# Altium schematic symbol library Memory_EEPROM.SchLib: 84 symbols
Pins are listed as number, name and electrical type; pins without a type are passive.

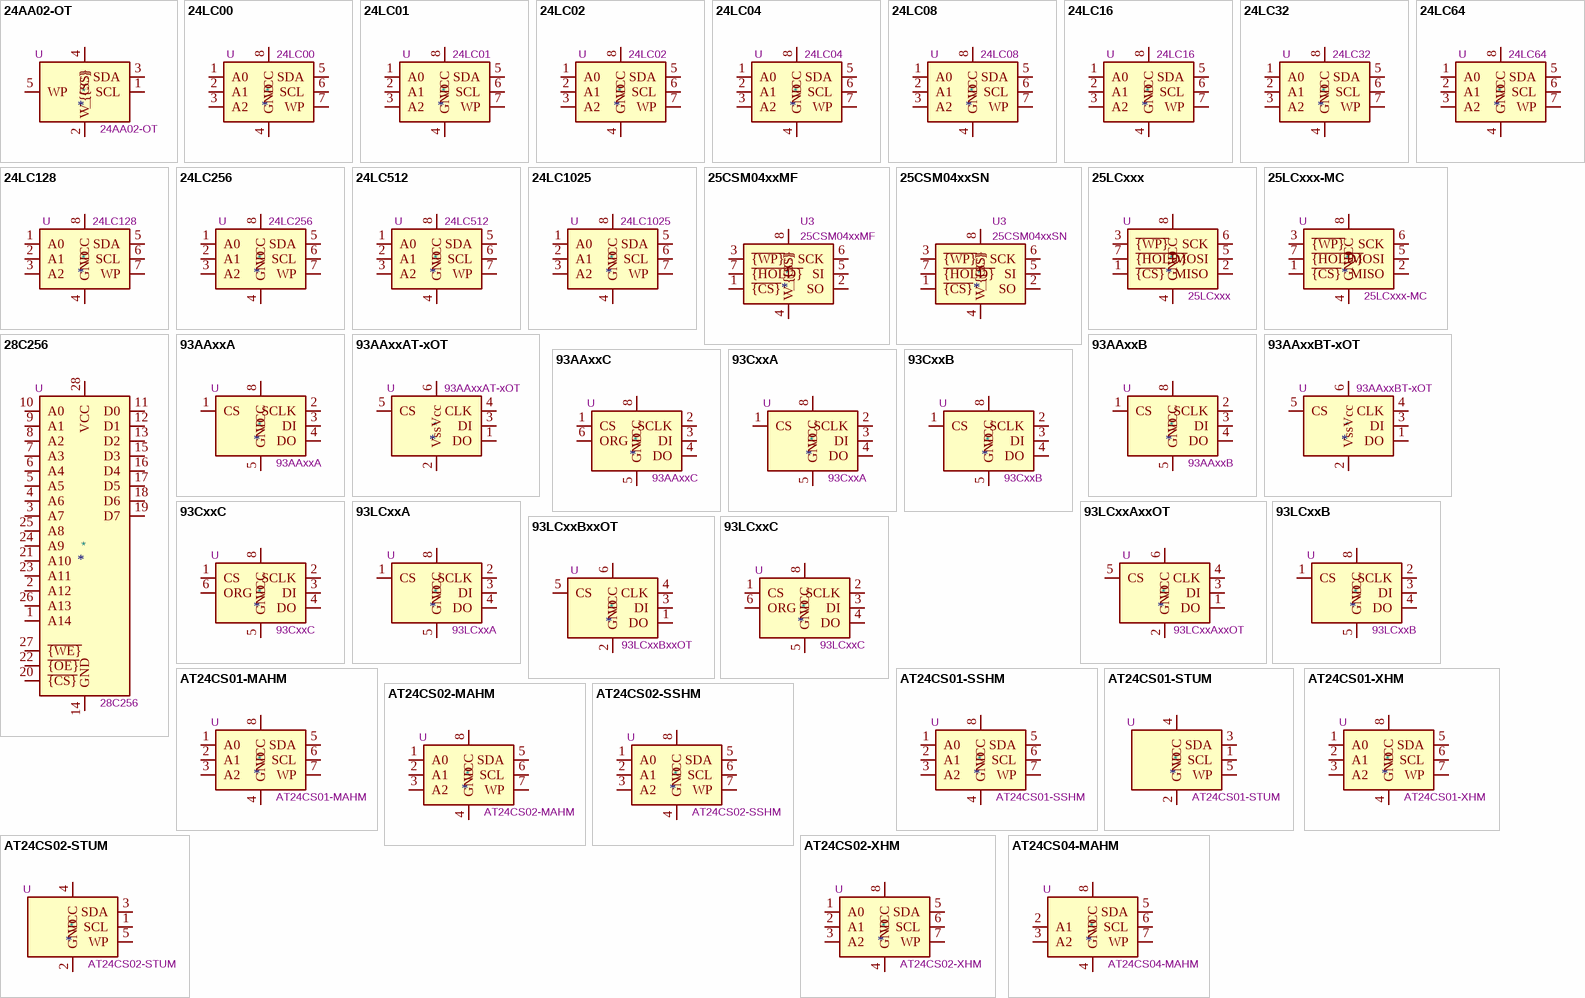
[diagram p0: symbols 24AA02-OT to AT24CS04-MAHM]

## 24AA02-OT
designator *  value 24AA02-OT  Reference: U
ki_keywords: I2C Serial EEPROM; ki_description: I2C Serial EEPROM, 2Kb, SOT-23; ki_fp_filters: SOT?23*; Footprint: Package_TO_SOT_SMD:SOT-23-5; Datasheet: http://ww1.microchip.com/downloads/en/DeviceDoc/21709J.pdf
pins: 1 SCL, 2 V_{SS}, 3 SDA, 4 V_{CC}, 5 WP

## 24LC00
designator *  value 24LC00  Reference: U
ki_keywords: I2C Serial EEPROM; ki_description: I2C Serial EEPROM, 128 Bits, DIP-8/SOIC-8/TSSOP-8/DFN-8; ki_fp_filters: DIP*W7.62mm* SOIC*3.9x4.9mm* TSSOP*4.4x3mm*P0.65mm* DFN*3x2mm*P0.5mm*; Datasheet: http://ww1.microchip.com/downloads/en/DeviceDoc/21178G.pdf
pins: 1 A0, 2 A1, 3 A2, 4 GND, 5 SDA, 6 SCL, 7 WP, 8 VCC

## 24LC01
designator *  value 24LC01  Reference: U
ki_keywords: I2C Serial EEPROM; ki_description: I2C Serial EEPROM, 1Kb, DIP-8/SOIC-8/TSSOP-8/DFN-8; ki_fp_filters: DIP*W7.62mm* SOIC*3.9x4.9mm* TSSOP*4.4x3mm*P0.65mm* DFN*3x2mm*P0.5mm*; Datasheet: http://ww1.microchip.com/downloads/en/DeviceDoc/21711J.pdf
pins: 1 A0, 2 A1, 3 A2, 4 GND, 5 SDA, 6 SCL, 7 WP, 8 VCC

## 24LC02
designator *  value 24LC02  Reference: U
ki_keywords: I2C Serial EEPROM; ki_description: I2C Serial EEPROM, 2Kb, DIP-8/SOIC-8/TSSOP-8/DFN-8; ki_fp_filters: DIP*W7.62mm* SOIC*3.9x4.9mm* TSSOP*4.4x3mm*P0.65mm* DFN*3x2mm*P0.5mm*; Datasheet: http://ww1.microchip.com/downloads/en/DeviceDoc/21709c.pdf
pins: 1 A0, 2 A1, 3 A2, 4 GND, 5 SDA, 6 SCL, 7 WP, 8 VCC

## 24LC04
designator *  value 24LC04  Reference: U
ki_keywords: I2C Serial EEPROM; ki_description: I2C Serial EEPROM, 4Kb, DIP-8/SOIC-8/TSSOP-8/DFN-8; ki_fp_filters: DIP*W7.62mm* SOIC*3.9x4.9mm* TSSOP*4.4x3mm*P0.65mm* DFN*3x2mm*P0.5mm*; Datasheet: http://ww1.microchip.com/downloads/en/DeviceDoc/21708K.pdf
pins: 1 A0, 2 A1, 3 A2, 4 GND, 5 SDA, 6 SCL, 7 WP, 8 VCC

## 24LC08
designator *  value 24LC08  Reference: U
ki_keywords: I2C Serial EEPROM; ki_description: I2C Serial EEPROM, 8Kb, DIP-8/SOIC-8/TSSOP-8/DFN-8; ki_fp_filters: DIP*W7.62mm* SOIC*3.9x4.9mm* TSSOP*4.4x3mm*P0.65mm* DFN*3x2mm*P0.5mm*; Datasheet: http://ww1.microchip.com/downloads/en/DeviceDoc/21710J.pdf
pins: 1 A0, 2 A1, 3 A2, 4 GND, 5 SDA, 6 SCL, 7 WP, 8 VCC

## 24LC16
designator *  value 24LC16  Reference: U
ki_keywords: I2C Serial EEPROM; ki_description: I2C Serial EEPROM, 16Kb, DIP-8/SOIC-8/TSSOP-8/DFN-8; ki_fp_filters: DIP*W7.62mm* SOIC*3.9x4.9mm* TSSOP*4.4x3mm*P0.65mm* DFN*3x2mm*P0.5mm*; Datasheet: http://ww1.microchip.com/downloads/en/DeviceDoc/21703d.pdf
pins: 1 A0, 2 A1, 3 A2, 4 GND, 5 SDA, 6 SCL, 7 WP, 8 VCC

## 24LC32
designator *  value 24LC32  Reference: U
ki_keywords: I2C Serial EEPROM; ki_description: I2C Serial EEPROM, 32Kb, DIP-8/SOIC-8/TSSOP-8/DFN-8; ki_fp_filters: DIP*W7.62mm* SOIC*3.9x4.9mm* TSSOP*4.4x3mm*P0.65mm* DFN*3x2mm*P0.5mm*; Datasheet: http://ww1.microchip.com/downloads/en/DeviceDoc/21072G.pdf
pins: 1 A0, 2 A1, 3 A2, 4 GND, 5 SDA, 6 SCL, 7 WP, 8 VCC

## 24LC64
designator *  value 24LC64  Reference: U
ki_keywords: I2C Serial EEPROM; ki_description: I2C Serial EEPROM, 64Kb, DIP-8/SOIC-8/TSSOP-8/DFN-8; ki_fp_filters: DIP*W7.62mm* SOIC*3.9x4.9mm* TSSOP*4.4x3mm*P0.65mm* DFN*3x2mm*P0.5mm*; Datasheet: http://ww1.microchip.com/downloads/en/DeviceDoc/21189f.pdf
pins: 1 A0, 2 A1, 3 A2, 4 GND, 5 SDA, 6 SCL, 7 WP, 8 VCC

## 24LC128
designator *  value 24LC128  Reference: U
ki_keywords: I2C Serial EEPROM; ki_description: I2C Serial EEPROM, 128Kb, DIP-8/SOIC-8/TSSOP-8/DFN-8; ki_fp_filters: DIP*W7.62mm* SOIC*3.9x4.9mm* TSSOP*4.4x3mm*P0.65mm* DFN*3x2mm*P0.5mm*; Datasheet: http://ww1.microchip.com/downloads/en/DeviceDoc/21191s.pdf
pins: 1 A0, 2 A1, 3 A2, 4 GND, 5 SDA, 6 SCL, 7 WP, 8 VCC

## 24LC256
designator *  value 24LC256  Reference: U
ki_keywords: I2C Serial EEPROM; ki_description: I2C Serial EEPROM, 256Kb, DIP-8/SOIC-8/TSSOP-8/DFN-8; ki_fp_filters: DIP*W7.62mm* SOIC*3.9x4.9mm* TSSOP*4.4x3mm*P0.65mm* DFN*3x2mm*P0.5mm*; Datasheet: http://ww1.microchip.com/downloads/en/devicedoc/21203m.pdf
pins: 1 A0, 2 A1, 3 A2, 4 GND, 5 SDA, 6 SCL, 7 WP, 8 VCC

## 24LC512
designator *  value 24LC512  Reference: U
ki_keywords: I2C Serial EEPROM; ki_description: I2C Serial EEPROM, 512Kb, DIP-8/SOIC-8/TSSOP-8/DFN-8; ki_fp_filters: DIP*W7.62mm* SOIC*3.9x4.9mm* TSSOP*4.4x3mm*P0.65mm* DFN*3x2mm*P0.5mm*; Datasheet: http://ww1.microchip.com/downloads/en/DeviceDoc/21754M.pdf
pins: 1 A0, 2 A1, 3 A2, 4 GND, 5 SDA, 6 SCL, 7 WP, 8 VCC

## 24LC1025
designator *  value 24LC1025  Reference: U
ki_keywords: I2C Serial EEPROM; ki_description: I2C Serial EEPROM, 1024Kb, DIP-8/SOIC-8/TSSOP-8/DFN-8; ki_fp_filters: DIP*W7.62mm* SOIC*3.9x4.9mm* TSSOP*4.4x3mm*P0.65mm* DFN*3x2mm*P0.5mm*; Datasheet: http://ww1.microchip.com/downloads/en/DeviceDoc/21941B.pdf
pins: 1 A0, 2 A1, 3 A2, 4 GND, 5 SDA, 6 SCL, 7 WP, 8 VCC

## 25CSM04xxMF
designator *  value 25CSM04xxMF  Reference: U3
ki_keywords: EEPROM memory SPI serial; ki_description: 4Mbit SPI Serial EEPROM, WDFN-8; ki_fp_filters: WDFN*1EP*6x5mm*P1.27mm*; Footprint: Package_DFN_QFN:WDFN-8-1EP_6x5mm_P1.27mm_EP3.4x4mm; Datasheet: https://ww1.microchip.com/downloads/aemDocuments/documents/MPD/ProductDocuments/DataSheets/25CSM04-4-Mbit-SPI-Serial-EEPROM-With-128-Bit-Serial-Number-and-Enhanced-Write-Protection-20005817C.pdf
pins: 1 ~{{CS}}, 2 SO, 3 ~{{WP}}, 4 V_{SS}, 5 SI, 6 SCK, 7 ~{{HOLD}}, 8 V_{CC}

## 25CSM04xxSN
designator *  value 25CSM04xxSN  Reference: U3
ki_keywords: EEPROM memory SPI serial; ki_description: 4Mbit SPI Serial EEPROM, SOIC-8; ki_fp_filters: SOIC*3.9x4.9mm*; Footprint: Package_SO:SOIC-8_3.9x4.9mm_P1.27mm; Datasheet: https://ww1.microchip.com/downloads/aemDocuments/documents/MPD/ProductDocuments/DataSheets/25CSM04-4-Mbit-SPI-Serial-EEPROM-With-128-Bit-Serial-Number-and-Enhanced-Write-Protection-20005817C.pdf
pins: 1 ~{{CS}}, 2 SO, 3 ~{{WP}}, 4 V_{SS}, 5 SI, 6 SCK, 7 ~{{HOLD}}, 8 V_{CC}

## 25LCxxx
designator *  value 25LCxxx  Reference: U
ki_keywords: EEPROM memory SPI serial; ki_description: SPI Serial EEPROM, DIP-8/SOIC-8/TSSOP-8; ki_fp_filters: DIP*W7.62mm* SOIC*3.9x4.9mm* TSSOP*4.4x3mm*P0.65mm*; Datasheet: http://ww1.microchip.com/downloads/en/DeviceDoc/21832H.pdf
pins: 1 ~{{CS}}, 2 MISO, 3 ~{{WP}}, 4 GND, 5 MOSI, 6 SCK, 7 ~{{HOLD}}, 8 VCC

## 25LCxxx-MC
designator *  value 25LCxxx-MC  Reference: U
ki_keywords: EEPROM memory SPI serial; ki_description: SPI Serial EEPROM, DFN8; ki_fp_filters: DFN*3x2mm*P0.5mm*; Footprint: Package_DFN_QFN:DFN-8-1EP_3x2mm_P0.5mm_EP1.75x1.45mm; Datasheet: http://ww1.microchip.com/downloads/en/DeviceDoc/21832H.pdf
pins: 1 ~{{CS}}, 2 MISO, 3 ~{{WP}}, 4 GND, 5 MOSI, 6 SCK, 7 ~{{HOLD}}, 8 VCC, 9 GND hidden

## 28C256
designator *  value 28C256  Reference: U
ki_keywords: Parallel EEPROM 256Kb; ki_description: Paged Parallel EEPROM 256Kb (32K x 8), DIP-28/SOIC-28; ki_fp_filters: DIP*W15.24mm* SOIC*7.5x17.9mm*P1.27mm*; Datasheet: http://ww1.microchip.com/downloads/en/DeviceDoc/doc0006.pdf
pins: 1 A14, 2 A12, 3 A7, 4 A6, 5 A5, 6 A4, 7 A3, 8 A2, 9 A1, 10 A0, 11 D0, 12 D1, 13 D2, 14 GND, 15 D3, 16 D4, 17 D5, 18 D6, 19 D7, 20 ~{{CS}}, 21 A10, 22 ~{{OE}}, 23 A11, 24 A9, 25 A8, 26 A13, 27 ~{{WE}}, 28 VCC

## 93AAxxA
designator *  value 93AAxxA  Reference: U
ki_keywords: EEPROM memory Microwire; ki_description: Serial EEPROM, 93 Series, 1.8V, DIP-8/SOIC-8; ki_fp_filters: DIP*W7.62mm* SOIC*3.9x4.9mm*; Datasheet: http://ww1.microchip.com/downloads/en/DeviceDoc/20001749K.pdf
pins: 1 CS, 2 SCLK, 3 DI, 4 DO, 5 GND, 6 NC hidden, 7 NC hidden, 8 VCC

## 93AAxxAT-xOT
designator *  value 93AAxxAT-xOT  Reference: U
ki_keywords: EEPROM memory Microwire; ki_description: Serial EEPROM, 93 Series, 8-bit word, 1.8V, SOT-23-6; ki_fp_filters: SOT?23*; Footprint: Package_TO_SOT_SMD:SOT-23-6; Datasheet: http://ww1.microchip.com/downloads/en/DeviceDoc/20001749K.pdf
pins: 1 DO, 2 Vss, 3 DI, 4 CLK, 5 CS, 6 Vcc

## 93AAxxB
designator *  value 93AAxxB  Reference: U
ki_keywords: EEPROM memory Microwire; ki_description: Serial EEPROM, 93 Series, 1.8V, DIP-8/SOIC-8; ki_fp_filters: DIP*W7.62mm* SOIC*3.9x4.9mm*; Datasheet: http://ww1.microchip.com/downloads/en/DeviceDoc/20001749K.pdf
pins: 1 CS, 2 SCLK, 3 DI, 4 DO, 5 GND, 6 NC hidden, 7 NC hidden, 8 VCC

## 93AAxxBT-xOT
designator *  value 93AAxxBT-xOT  Reference: U
ki_keywords: EEPROM memory Microwire; ki_description: Serial EEPROM, 93 Series, 16-bit word, 1.8V, SOT-23; ki_fp_filters: SOT?23*; Footprint: Package_TO_SOT_SMD:SOT-23-6; Datasheet: http://ww1.microchip.com/downloads/en/DeviceDoc/20001749K.pdf
pins: 1 DO, 2 Vss, 3 DI, 4 CLK, 5 CS, 6 Vcc

## 93AAxxC
designator *  value 93AAxxC  Reference: U
ki_keywords: EEPROM memory Microwire; ki_description: Serial EEPROM, 93 Series, with ORG Pin, 1.8V, DIP-8/SOIC-8; ki_fp_filters: DIP*W7.62mm* SOIC*3.9x4.9mm*; Datasheet: http://ww1.microchip.com/downloads/en/DeviceDoc/20001749K.pdf
pins: 1 CS, 2 SCLK, 3 DI, 4 DO, 5 GND, 6 ORG, 7 NC hidden, 8 VCC

## 93CxxA
designator *  value 93CxxA  Reference: U
ki_keywords: EEPROM memory Microwire; ki_description: Serial EEPROM, 93 Series, 5.0V, DIP-8/SOIC-8; ki_fp_filters: DIP*W7.62mm* SOIC*3.9x4.9mm*; Datasheet: http://ww1.microchip.com/downloads/en/DeviceDoc/20001749K.pdf
pins: 1 CS, 2 SCLK, 3 DI, 4 DO, 5 GND, 6 NC hidden, 7 NC hidden, 8 VCC

## 93CxxB
designator *  value 93CxxB  Reference: U
ki_keywords: EEPROM memory Microwire; ki_description: Serial EEPROM, 93 Series, 5.0V, DIP-8/SOIC-8; ki_fp_filters: DIP*W7.62mm* SOIC*3.9x4.9mm*; Datasheet: http://ww1.microchip.com/downloads/en/DeviceDoc/20001749K.pdf
pins: 1 CS, 2 SCLK, 3 DI, 4 DO, 5 GND, 6 NC hidden, 7 NC hidden, 8 VCC

## 93CxxC
designator *  value 93CxxC  Reference: U
ki_keywords: EEPROM memory Microwire; ki_description: Serial EEPROM, 93 Series, with ORG Pin, 5.0V, DIP-8/SOIC-8; ki_fp_filters: DIP*W7.62mm* SOIC*3.9x4.9mm*; Datasheet: http://ww1.microchip.com/downloads/en/DeviceDoc/20001749K.pdf
pins: 1 CS, 2 SCLK, 3 DI, 4 DO, 5 GND, 6 ORG, 7 NC hidden, 8 VCC

## 93LCxxA
designator *  value 93LCxxA  Reference: U
ki_keywords: EEPROM memory Microwire; ki_description: Serial EEPROM, 93 Series, 2.5V, DIP-8/SOIC-8; ki_fp_filters: DIP*W7.62mm* SOIC*3.9x4.9mm*; Datasheet: http://ww1.microchip.com/downloads/en/DeviceDoc/20001749K.pdf
pins: 1 CS, 2 SCLK, 3 DI, 4 DO, 5 GND, 6 NC hidden, 7 NC hidden, 8 VCC

## 93LCxxAxxOT
designator *  value 93LCxxAxxOT  Reference: U
ki_keywords: EEPROM memory Microwire; ki_description: Serial EEPROM, 93 Series, 2.5V, SOT-23-6; ki_fp_filters: SOT?23*; Footprint: Package_TO_SOT_SMD:SOT-23-6; Datasheet: http://ww1.microchip.com/downloads/en/DeviceDoc/20001749K.pdf
pins: 1 DO, 2 GND, 3 DI, 4 CLK, 5 CS, 6 VCC

## 93LCxxB
designator *  value 93LCxxB  Reference: U
ki_keywords: EEPROM memory Microwire; ki_description: Serial EEPROM, 93 Series, 2.5V, DIP-8/SOIC-8; ki_fp_filters: DIP*W7.62mm* SOIC*3.9x4.9mm*; Datasheet: http://ww1.microchip.com/downloads/en/DeviceDoc/20001749K.pdf
pins: 1 CS, 2 SCLK, 3 DI, 4 DO, 5 GND, 6 NC hidden, 7 NC hidden, 8 VCC

## 93LCxxBxxOT
designator *  value 93LCxxBxxOT  Reference: U
ki_keywords: 1K Microwire Serial EEPROM; ki_description: Serial EEPROM, 93 Series, 2.5V, SOT-23-6; ki_fp_filters: SOT?23*; Footprint: Package_TO_SOT_SMD:SOT-23-6; Datasheet: http://ww1.microchip.com/downloads/en/DeviceDoc/20001749K.pdf
pins: 1 DO, 2 GND, 3 DI, 4 CLK, 5 CS, 6 VCC

## 93LCxxC
designator *  value 93LCxxC  Reference: U
ki_keywords: EEPROM memory Microwire; ki_description: Serial EEPROM, 93 Series, with ORG Pin, 2.5V, DIP-8/SOIC-8; ki_fp_filters: DIP*W7.62mm* SOIC*3.9x4.9mm*; Datasheet: http://ww1.microchip.com/downloads/en/DeviceDoc/20001749K.pdf
pins: 1 CS, 2 SCLK, 3 DI, 4 DO, 5 GND, 6 ORG, 7 NC hidden, 8 VCC

## AT24CS01-MAHM
designator *  value AT24CS01-MAHM  Reference: U
ki_keywords: I2C Serial EEPROM Nonvolatile Memory; ki_description: I2C Serial EEPROM, 1Kb (128x8) with Unique Serial Number, UDFN8; ki_fp_filters: DFN*3x2mm*P0.5mm*; Footprint: Package_DFN_QFN:DFN-8-1EP_3x2mm_P0.5mm_EP1.3x1.5mm; Datasheet: http://ww1.microchip.com/downloads/en/DeviceDoc/Atmel-8815-SEEPROM-AT24CS01-02-Datasheet.pdf
pins: 1 A0, 2 A1, 3 A2, 4 GND, 5 SDA, 6 SCL, 7 WP, 8 VCC

## AT24CS01-SSHM
designator *  value AT24CS01-SSHM  Reference: U
ki_keywords: I2C Serial EEPROM Nonvolatile Memory; ki_description: I2C Serial EEPROM, 1Kb (128x8) with Unique Serial Number, SO8; ki_fp_filters: SOIC*3.9x4.9mm*P1.27mm*; Footprint: Package_SO:SOIC-8_3.9x4.9mm_P1.27mm; Datasheet: http://ww1.microchip.com/downloads/en/DeviceDoc/Atmel-8815-SEEPROM-AT24CS01-02-Datasheet.pdf
pins: 1 A0, 2 A1, 3 A2, 4 GND, 5 SDA, 6 SCL, 7 WP, 8 VCC

## AT24CS01-STUM
designator *  value AT24CS01-STUM  Reference: U
ki_keywords: I2C Serial EEPROM Nonvolatile Memory; ki_description: I2C Serial EEPROM, 1Kb (128x8) with Unique Serial Number, SOT-23-5; ki_fp_filters: SOT?23*; Footprint: Package_TO_SOT_SMD:SOT-23-5; Datasheet: http://ww1.microchip.com/downloads/en/DeviceDoc/Atmel-8815-SEEPROM-AT24CS01-02-Datasheet.pdf
pins: 1 SCL, 2 GND, 3 SDA, 4 VCC, 5 WP

## AT24CS01-XHM
designator *  value AT24CS01-XHM  Reference: U
ki_keywords: I2C Serial EEPROM Nonvolatile Memory; ki_description: I2C Serial EEPROM, 1Kb (128x8) with Unique Serial Number, TSSOP8; ki_fp_filters: TSSOP*4.4x3mm*P0.65mm*; Footprint: Package_SO:TSSOP-8_4.4x3mm_P0.65mm; Datasheet: http://ww1.microchip.com/downloads/en/DeviceDoc/Atmel-8815-SEEPROM-AT24CS01-02-Datasheet.pdf
pins: 1 A0, 2 A1, 3 A2, 4 GND, 5 SDA, 6 SCL, 7 WP, 8 VCC

## AT24CS02-MAHM
designator *  value AT24CS02-MAHM  Reference: U
ki_keywords: I2C Serial EEPROM Nonvolatile Memory; ki_description: I2C Serial EEPROM, 2Kb (256x8) with Unique Serial Number, UDFN8; ki_fp_filters: DFN*3x2mm*P0.5mm*; Footprint: Package_DFN_QFN:DFN-8-1EP_3x2mm_P0.5mm_EP1.3x1.5mm; Datasheet: http://ww1.microchip.com/downloads/en/DeviceDoc/Atmel-8815-SEEPROM-AT24CS01-02-Datasheet.pdf
pins: 1 A0, 2 A1, 3 A2, 4 GND, 5 SDA, 6 SCL, 7 WP, 8 VCC

## AT24CS02-SSHM
designator *  value AT24CS02-SSHM  Reference: U
ki_keywords: I2C Serial EEPROM Nonvolatile Memory; ki_description: I2C Serial EEPROM, 2Kb (256x8) with Unique Serial Number, SO8; ki_fp_filters: SOIC*3.9x4.9mm*P1.27mm*; Footprint: Package_SO:SOIC-8_3.9x4.9mm_P1.27mm; Datasheet: http://ww1.microchip.com/downloads/en/DeviceDoc/Atmel-8815-SEEPROM-AT24CS01-02-Datasheet.pdf
pins: 1 A0, 2 A1, 3 A2, 4 GND, 5 SDA, 6 SCL, 7 WP, 8 VCC

## AT24CS02-STUM
designator *  value AT24CS02-STUM  Reference: U
ki_keywords: I2C Serial EEPROM Nonvolatile Memory; ki_description: I2C Serial EEPROM, 2Kb (256x8) with Unique Serial Number, SOT-23-5; ki_fp_filters: SOT?23*; Footprint: Package_TO_SOT_SMD:SOT-23-5; Datasheet: http://ww1.microchip.com/downloads/en/DeviceDoc/Atmel-8815-SEEPROM-AT24CS01-02-Datasheet.pdf
pins: 1 SCL, 2 GND, 3 SDA, 4 VCC, 5 WP

## AT24CS02-XHM
designator *  value AT24CS02-XHM  Reference: U
ki_keywords: I2C Serial EEPROM Nonvolatile Memory; ki_description: I2C Serial EEPROM, 2Kb (256x8) with Unique Serial Number, TSSOP8; ki_fp_filters: TSSOP*4.4x3mm*P0.65mm*; Footprint: Package_SO:TSSOP-8_4.4x3mm_P0.65mm; Datasheet: http://ww1.microchip.com/downloads/en/DeviceDoc/Atmel-8815-SEEPROM-AT24CS01-02-Datasheet.pdf
pins: 1 A0, 2 A1, 3 A2, 4 GND, 5 SDA, 6 SCL, 7 WP, 8 VCC

## AT24CS04-MAHM
designator *  value AT24CS04-MAHM  Reference: U
ki_keywords: I2C Serial EEPROM Nonvolatile Memory; ki_description: I2C Serial EEPROM, 4Kb (512x8) with Unique Serial Number, UDFN8; ki_fp_filters: DFN*3x2mm*P0.5mm*; Footprint: Package_DFN_QFN:DFN-8-1EP_3x2mm_P0.5mm_EP1.3x1.5mm; Datasheet: http://ww1.microchip.com/downloads/en/DeviceDoc/Atmel-8766-SEEPROM-AT24CS04-08-Datasheet.pdf
pins: 1 NC hidden, 2 A1, 3 A2, 4 GND, 5 SDA, 6 SCL, 7 WP, 8 VCC, 9 NC hidden

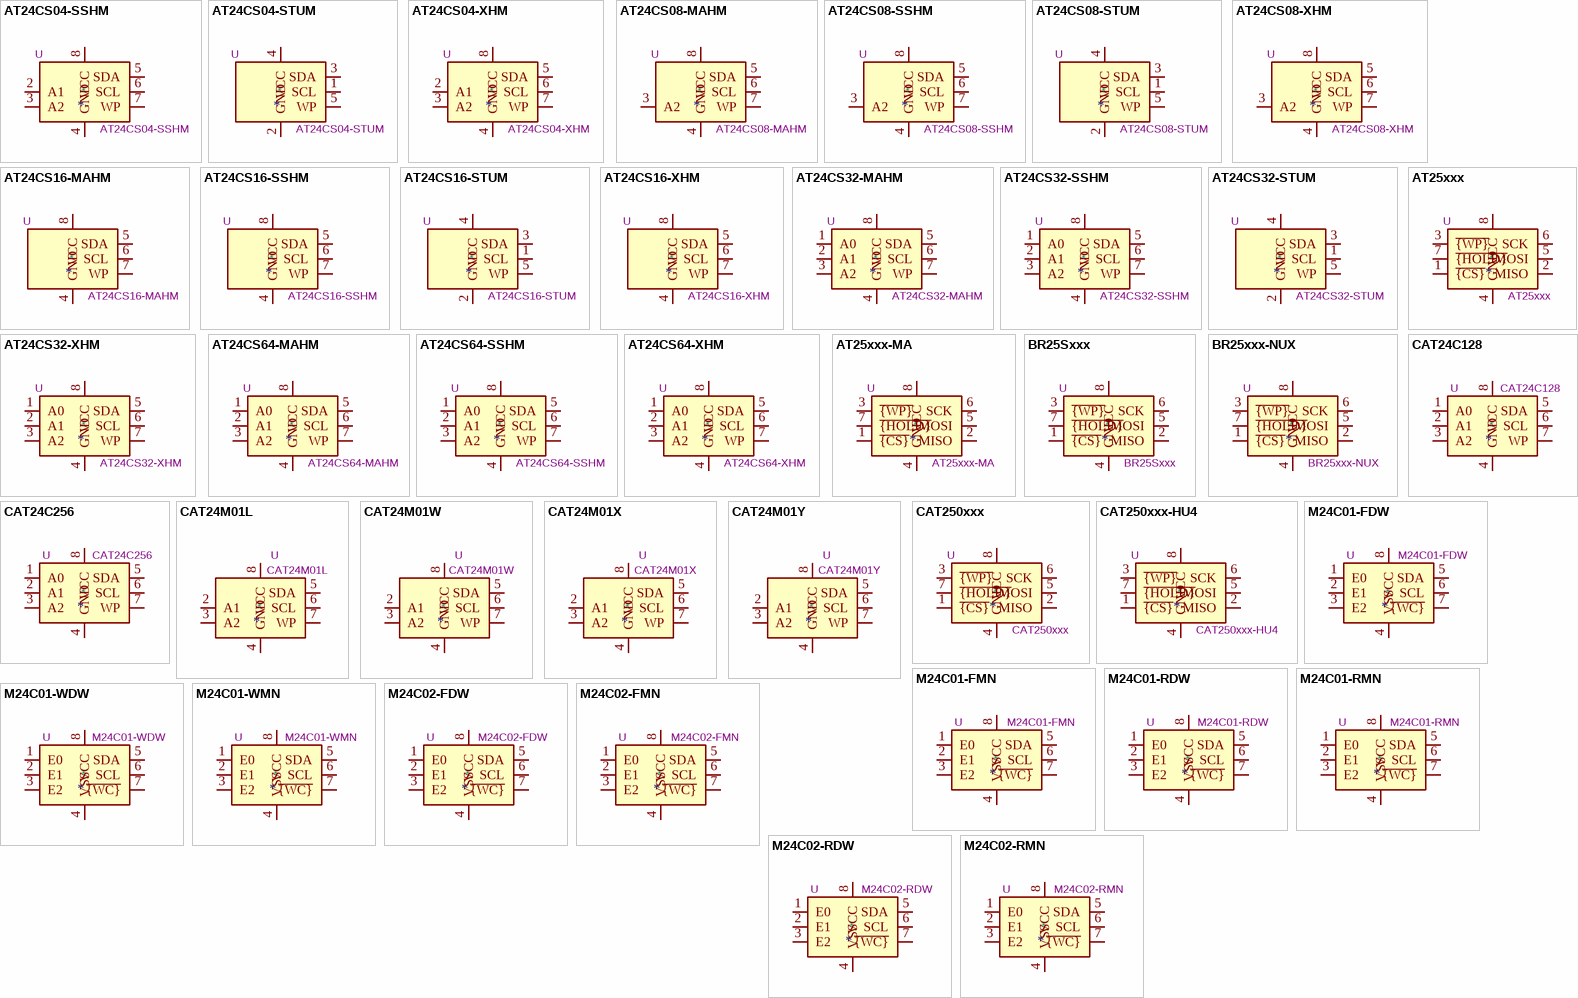
[diagram p1: symbols AT24CS04-SSHM to M24C02-RMN]

## AT24CS04-SSHM
designator *  value AT24CS04-SSHM  Reference: U
ki_keywords: I2C Serial EEPROM Nonvolatile Memory; ki_description: I2C Serial EEPROM, 4Kb (512x8) with Unique Serial Number, SO8; ki_fp_filters: SOIC*3.9x4.9mm*P1.27mm*; Footprint: Package_SO:SOIC-8_3.9x4.9mm_P1.27mm; Datasheet: http://ww1.microchip.com/downloads/en/DeviceDoc/Atmel-8766-SEEPROM-AT24CS04-08-Datasheet.pdf
pins: 1 NC hidden, 2 A1, 3 A2, 4 GND, 5 SDA, 6 SCL, 7 WP, 8 VCC

## AT24CS04-STUM
designator *  value AT24CS04-STUM  Reference: U
ki_keywords: I2C Serial EEPROM Nonvolatile Memory; ki_description: I2C Serial EEPROM, 4Kb (512x8) with Unique Serial Number, SOT-23-5; ki_fp_filters: SOT?23*; Footprint: Package_TO_SOT_SMD:SOT-23-5; Datasheet: http://ww1.microchip.com/downloads/en/DeviceDoc/Atmel-8766-SEEPROM-AT24CS04-08-Datasheet.pdf
pins: 1 SCL, 2 GND, 3 SDA, 4 VCC, 5 WP

## AT24CS04-XHM
designator *  value AT24CS04-XHM  Reference: U
ki_keywords: I2C Serial EEPROM Nonvolatile Memory; ki_description: I2C Serial EEPROM, 4Kb (512x8) with Unique Serial Number, TSSOP8; ki_fp_filters: TSSOP*4.4x3mm*P0.65mm*; Footprint: Package_SO:TSSOP-8_4.4x3mm_P0.65mm; Datasheet: http://ww1.microchip.com/downloads/en/DeviceDoc/Atmel-8766-SEEPROM-AT24CS04-08-Datasheet.pdf
pins: 1 NC hidden, 2 A1, 3 A2, 4 GND, 5 SDA, 6 SCL, 7 WP, 8 VCC

## AT24CS08-MAHM
designator *  value AT24CS08-MAHM  Reference: U
ki_keywords: I2C Serial EEPROM Nonvolatile Memory; ki_description: I2C Serial EEPROM, 8Kb (1024x8) with Unique Serial Number, UDFN8; ki_fp_filters: DFN*3x2mm*P0.5mm*; Footprint: Package_DFN_QFN:DFN-8-1EP_3x2mm_P0.5mm_EP1.3x1.5mm; Datasheet: http://ww1.microchip.com/downloads/en/DeviceDoc/Atmel-8766-SEEPROM-AT24CS04-08-Datasheet.pdf
pins: 1 NC hidden, 2 NC hidden, 3 A2, 4 GND, 5 SDA, 6 SCL, 7 WP, 8 VCC, 9 NC hidden

## AT24CS08-SSHM
designator *  value AT24CS08-SSHM  Reference: U
ki_keywords: I2C Serial EEPROM Nonvolatile Memory; ki_description: I2C Serial EEPROM, 8Kb (1024x8) with Unique Serial Number, SO8; ki_fp_filters: SOIC*3.9x4.9mm*P1.27mm*; Footprint: Package_SO:SOIC-8_3.9x4.9mm_P1.27mm; Datasheet: http://ww1.microchip.com/downloads/en/DeviceDoc/Atmel-8766-SEEPROM-AT24CS04-08-Datasheet.pdf
pins: 1 NC hidden, 2 NC hidden, 3 A2, 4 GND, 5 SDA, 6 SCL, 7 WP, 8 VCC

## AT24CS08-STUM
designator *  value AT24CS08-STUM  Reference: U
ki_keywords: I2C Serial EEPROM Nonvolatile Memory; ki_description: I2C Serial EEPROM, 8Kb (1024x8) with Unique Serial Number, SOT-23-5; ki_fp_filters: SOT?23*; Footprint: Package_TO_SOT_SMD:SOT-23-5; Datasheet: http://ww1.microchip.com/downloads/en/DeviceDoc/Atmel-8766-SEEPROM-AT24CS04-08-Datasheet.pdf
pins: 1 SCL, 2 GND, 3 SDA, 4 VCC, 5 WP

## AT24CS08-XHM
designator *  value AT24CS08-XHM  Reference: U
ki_keywords: I2C Serial EEPROM Nonvolatile Memory; ki_description: I2C Serial EEPROM, 8Kb (1024x8) with Unique Serial Number, TSSOP8; ki_fp_filters: TSSOP*4.4x3mm*P0.65mm*; Footprint: Package_SO:TSSOP-8_4.4x3mm_P0.65mm; Datasheet: http://ww1.microchip.com/downloads/en/DeviceDoc/Atmel-8766-SEEPROM-AT24CS04-08-Datasheet.pdf
pins: 1 NC hidden, 2 NC hidden, 3 A2, 4 GND, 5 SDA, 6 SCL, 7 WP, 8 VCC

## AT24CS16-MAHM
designator *  value AT24CS16-MAHM  Reference: U
ki_keywords: I2C Serial EEPROM Nonvolatile Memory; ki_description: I2C Serial EEPROM, 16Kb (2048x8) with Unique Serial Number, UDFN8; ki_fp_filters: DFN*3x2mm*P0.5mm*; Footprint: Package_DFN_QFN:DFN-8-1EP_3x2mm_P0.5mm_EP1.3x1.5mm; Datasheet: http://ww1.microchip.com/downloads/en/DeviceDoc/Atmel-8859-SEEPROM-AT24CS16-Datasheet.pdf
pins: 1 NC hidden, 2 NC hidden, 3 NC hidden, 4 GND, 5 SDA, 6 SCL, 7 WP, 8 VCC, 9 NC hidden

## AT24CS16-SSHM
designator *  value AT24CS16-SSHM  Reference: U
ki_keywords: I2C Serial EEPROM Nonvolatile Memory; ki_description: I2C Serial EEPROM, 16Kb (2048x8) with Unique Serial Number, SO8; ki_fp_filters: SOIC*3.9x4.9mm*P1.27mm*; Footprint: Package_SO:SOIC-8_3.9x4.9mm_P1.27mm; Datasheet: http://ww1.microchip.com/downloads/en/DeviceDoc/Atmel-8859-SEEPROM-AT24CS16-Datasheet.pdf
pins: 1 NC hidden, 2 NC hidden, 3 NC hidden, 4 GND, 5 SDA, 6 SCL, 7 WP, 8 VCC

## AT24CS16-STUM
designator *  value AT24CS16-STUM  Reference: U
ki_keywords: I2C Serial EEPROM Nonvolatile Memory; ki_description: I2C Serial EEPROM, 16Kb (2048x8) with Unique Serial Number, SOT-23-5; ki_fp_filters: SOT?23*; Footprint: Package_TO_SOT_SMD:SOT-23-5; Datasheet: http://ww1.microchip.com/downloads/en/DeviceDoc/Atmel-8859-SEEPROM-AT24CS16-Datasheet.pdf
pins: 1 SCL, 2 GND, 3 SDA, 4 VCC, 5 WP

## AT24CS16-XHM
designator *  value AT24CS16-XHM  Reference: U
ki_keywords: I2C Serial EEPROM Nonvolatile Memory; ki_description: I2C Serial EEPROM, 16Kb (2048x8) with Unique Serial Number, TSSOP8; ki_fp_filters: TSSOP*4.4x3mm*P0.65mm*; Footprint: Package_SO:TSSOP-8_4.4x3mm_P0.65mm; Datasheet: http://ww1.microchip.com/downloads/en/DeviceDoc/Atmel-8859-SEEPROM-AT24CS16-Datasheet.pdf
pins: 1 NC hidden, 2 NC hidden, 3 NC hidden, 4 GND, 5 SDA, 6 SCL, 7 WP, 8 VCC

## AT24CS32-MAHM
designator *  value AT24CS32-MAHM  Reference: U
ki_keywords: I2C Serial EEPROM Nonvolatile Memory; ki_description: I2C Serial EEPROM, 32Kb (4096x8) with Unique Serial Number, UDFN8; ki_fp_filters: DFN*3x2mm*P0.5mm*; Footprint: Package_DFN_QFN:DFN-8-1EP_3x2mm_P0.5mm_EP1.3x1.5mm; Datasheet: http://ww1.microchip.com/downloads/en/DeviceDoc/Atmel-8869-SEEPROM-AT24CS32-Datasheet.pdf
pins: 1 A0, 2 A1, 3 A2, 4 GND, 5 SDA, 6 SCL, 7 WP, 8 VCC

## AT24CS32-SSHM
designator *  value AT24CS32-SSHM  Reference: U
ki_keywords: I2C Serial EEPROM Nonvolatile Memory; ki_description: I2C Serial EEPROM, 32Kb (4096x8) with Unique Serial Number, SO8; ki_fp_filters: SOIC*3.9x4.9mm*P1.27mm*; Footprint: Package_SO:SOIC-8_3.9x4.9mm_P1.27mm; Datasheet: http://ww1.microchip.com/downloads/en/DeviceDoc/Atmel-8869-SEEPROM-AT24CS32-Datasheet.pdf
pins: 1 A0, 2 A1, 3 A2, 4 GND, 5 SDA, 6 SCL, 7 WP, 8 VCC

## AT24CS32-STUM
designator *  value AT24CS32-STUM  Reference: U
ki_keywords: I2C Serial EEPROM Nonvolatile Memory; ki_description: I2C Serial EEPROM, 32Kb (4096x8) with Unique Serial Number, SOT-23-5; ki_fp_filters: SOT?23*; Footprint: Package_TO_SOT_SMD:SOT-23-5; Datasheet: http://ww1.microchip.com/downloads/en/DeviceDoc/Atmel-8869-SEEPROM-AT24CS32-Datasheet.pdf
pins: 1 SCL, 2 GND, 3 SDA, 4 VCC, 5 WP

## AT24CS32-XHM
designator *  value AT24CS32-XHM  Reference: U
ki_keywords: I2C Serial EEPROM Nonvolatile Memory; ki_description: I2C Serial EEPROM, 32Kb (4096x8) with Unique Serial Number, TSSOP8; ki_fp_filters: TSSOP*4.4x3mm*P0.65mm*; Footprint: Package_SO:TSSOP-8_4.4x3mm_P0.65mm; Datasheet: http://ww1.microchip.com/downloads/en/DeviceDoc/Atmel-8869-SEEPROM-AT24CS32-Datasheet.pdf
pins: 1 A0, 2 A1, 3 A2, 4 GND, 5 SDA, 6 SCL, 7 WP, 8 VCC

## AT24CS64-MAHM
designator *  value AT24CS64-MAHM  Reference: U
ki_keywords: I2C Serial EEPROM Nonvolatile Memory; ki_description: I2C Serial EEPROM, 64Kb (8192x8) with Unique Serial Number, UDFN8; ki_fp_filters: DFN*3x2mm*P0.5mm*; Footprint: Package_DFN_QFN:DFN-8-1EP_3x2mm_P0.5mm_EP1.3x1.5mm; Datasheet: http://ww1.microchip.com/downloads/en/DeviceDoc/Atmel-8870-SEEPROM-AT24CS64-Datasheet.pdf
pins: 1 A0, 2 A1, 3 A2, 4 GND, 5 SDA, 6 SCL, 7 WP, 8 VCC

## AT24CS64-SSHM
designator *  value AT24CS64-SSHM  Reference: U
ki_keywords: I2C Serial EEPROM Nonvolatile Memory; ki_description: I2C Serial EEPROM, 64Kb (8192x8) with Unique Serial Number, SO8; ki_fp_filters: SOIC*3.9x4.9mm*P1.27mm*; Footprint: Package_SO:SOIC-8_3.9x4.9mm_P1.27mm; Datasheet: http://ww1.microchip.com/downloads/en/DeviceDoc/Atmel-8870-SEEPROM-AT24CS64-Datasheet.pdf
pins: 1 A0, 2 A1, 3 A2, 4 GND, 5 SDA, 6 SCL, 7 WP, 8 VCC

## AT24CS64-XHM
designator *  value AT24CS64-XHM  Reference: U
ki_keywords: I2C Serial EEPROM Nonvolatile Memory; ki_description: I2C Serial EEPROM, 64Kb (8192x8) with Unique Serial Number, TSSOP8; ki_fp_filters: TSSOP*4.4x3mm*P0.65mm*; Footprint: Package_SO:TSSOP-8_4.4x3mm_P0.65mm; Datasheet: http://ww1.microchip.com/downloads/en/DeviceDoc/Atmel-8870-SEEPROM-AT24CS64-Datasheet.pdf
pins: 1 A0, 2 A1, 3 A2, 4 GND, 5 SDA, 6 SCL, 7 WP, 8 VCC

## AT25xxx
designator *  value AT25xxx  Reference: U
ki_keywords: EEPROM memory SPI serial; ki_description: Microchip SPI Serial EEPROM, DIP-8/SOIC-8/TSSOP-8; ki_fp_filters: DIP*W7.62mm* SOIC*3.9x4.9mm* TSSOP*4.4x3mm*P0.65mm*; Datasheet: http://ww1.microchip.com/downloads/en/DeviceDoc/Atmel-8707-SEEPROM-AT25010B-020B-040B-Datasheet.pdf
pins: 1 ~{{CS}}, 2 MISO, 3 ~{{WP}}, 4 GND, 5 MOSI, 6 SCK, 7 ~{{HOLD}}, 8 VCC

## AT25xxx-MA
designator *  value AT25xxx-MA  Reference: U
ki_keywords: EEPROM memory SPI serial; ki_description: Microchip SPI Serial EEPROM, DFN8; ki_fp_filters: DFN*3x2mm*P0.5mm*; Footprint: Package_DFN_QFN:DFN-8-1EP_3x2mm_P0.5mm_EP1.75x1.45mm; Datasheet: http://ww1.microchip.com/downloads/en/DeviceDoc/Atmel-8707-SEEPROM-AT25010B-020B-040B-Datasheet.pdf
pins: 1 ~{{CS}}, 2 MISO, 3 ~{{WP}}, 4 GND, 5 MOSI, 6 SCK, 7 ~{{HOLD}}, 8 VCC, 9 GND hidden

## BR25Sxxx
designator *  value BR25Sxxx  Reference: U
ki_keywords: EEPROM memory SPI serial; ki_description: ROHM Semiconductor SPI Serial EEPROM, DIP-8/SOIC-8/TSSOP-8; ki_fp_filters: DIP*W7.62mm* SOIC*3.9x4.9mm* TSSOP*4.4x3mm*P0.65mm*; Datasheet: http://www.rohm.com/web/global/products/-/product/BR25G128F-3
pins: 1 ~{{CS}}, 2 MISO, 3 ~{{WP}}, 4 GND, 5 MOSI, 6 SCK, 7 ~{{HOLD}}, 8 VCC

## BR25xxx-NUX
designator *  value BR25xxx-NUX  Reference: U
ki_keywords: EEPROM memory SPI serial; ki_description: ROHM Semiconductor SPI Serial EEPROM, DFN8; ki_fp_filters: DFN*3x2mm*P0.5mm*; Footprint: Package_DFN_QFN:DFN-8-1EP_3x2mm_P0.5mm_EP1.75x1.45mm; Datasheet: http://www.rohm.com/web/global/products/-/product/BR25G128F-3
pins: 1 ~{{CS}}, 2 MISO, 3 ~{{WP}}, 4 GND, 5 MOSI, 6 SCK, 7 ~{{HOLD}}, 8 VCC, 9 GND hidden

## CAT24C128
designator *  value CAT24C128  Reference: U
ki_keywords: I2C EEPROM Serial 128kb; ki_description: 128 kb CMOS Serial EEPROM, SOIC-8/TSSOP-8/DFN-8; ki_fp_filters: DIP*W7.62mm* SOIC*3.9x4.9mm* TSSOP*4.4x3mm*P0.65mm* DFN*3x2mm*P0.5mm*; Datasheet: https://www.onsemi.com/pub/Collateral/CAT24C128-D.PDF
pins: 1 A0, 2 A1, 3 A2, 4 GND, 5 SDA, 6 SCL, 7 WP, 8 VCC

## CAT24C256
designator *  value CAT24C256  Reference: U
ki_keywords: I2C EEPROM Serial 256kb; ki_description: 256 kb CMOS Serial EEPROM, DIP-8/SOIC-8/TSSOP-8/DFN-8; ki_fp_filters: DIP*W7.62mm* SOIC*3.9x4.9mm* TSSOP*4.4x3mm*P0.65mm* DFN*3x2mm*P0.5mm*; Datasheet: https://www.onsemi.cn/PowerSolutions/document/CAT24C256-D.PDF
pins: 1 A0, 2 A1, 3 A2, 4 GND, 5 SDA, 6 SCL, 7 WP, 8 VCC

## CAT24M01L
designator *  value CAT24M01L  Reference: U
ki_keywords: EEPROM 1Mb I2C; ki_description: 1 Mb I2C CMOS Serial EEPROM, DIP-8; ki_fp_filters: DIP*W7.62mm*; Footprint: Package_DIP:DIP-8_W7.62mm; Datasheet: https://www.onsemi.com/pub/Collateral/CAT24M01-D.PDF
pins: 1 NC hidden, 2 A1, 3 A2, 4 GND, 5 SDA, 6 SCL, 7 WP, 8 VCC

## CAT24M01W
designator *  value CAT24M01W  Reference: U
ki_keywords: EEPROM 1Mb I2C; ki_description: 1 Mb I2C CMOS Serial EEPROM, SOIC-8; ki_fp_filters: SOIC*3.9x4.9mm*P1.27mm*; Footprint: Package_SO:SOIC-8_3.9x4.9mm_P1.27mm; Datasheet: https://www.onsemi.com/pub/Collateral/CAT24M01-D.PDF
pins: 1 NC hidden, 2 A1, 3 A2, 4 GND, 5 SDA, 6 SCL, 7 WP, 8 VCC

## CAT24M01X
designator *  value CAT24M01X  Reference: U
ki_keywords: EEPROM 1Mb I2C; ki_description: 1 Mb I2C CMOS Serial EEPROM, SOIC-8W; ki_fp_filters: SOIC*5.3x5.3mm*P1.27mm*; Footprint: Package_SO:SOIC-8W_5.3x5.3mm_P1.27mm; Datasheet: https://www.onsemi.com/pub/Collateral/CAT24M01-D.PDF
pins: 1 NC hidden, 2 A1, 3 A2, 4 GND, 5 SDA, 6 SCL, 7 WP, 8 VCC

## CAT24M01Y
designator *  value CAT24M01Y  Reference: U
ki_keywords: EEPROM 1Mb I2C; ki_description: 1 Mb I2C CMOS Serial EEPROM, TSSOP-8; ki_fp_filters: TSSOP*4.4x3mm*P0.65mm*; Footprint: Package_SO:TSSOP-8_4.4x3mm_P0.65mm; Datasheet: https://www.onsemi.com/pub/Collateral/CAT24M01-D.PDF
pins: 1 NC hidden, 2 A1, 3 A2, 4 GND, 5 SDA, 6 SCL, 7 WP, 8 VCC

## CAT250xxx
designator *  value CAT250xxx  Reference: U
ki_keywords: EEPROM memory SPI serial; ki_description: ON Semiconductor SPI Serial EEPROM, DIP-8/SOIC-8/TSSOP-8; ki_fp_filters: DIP*W7.62mm* SOIC*3.9x4.9mm* TSSOP*4.4x3mm*P0.65mm*; Datasheet: http://www.onsemi.com/PowerSolutions/product.do?id=CAT25040
pins: 1 ~{{CS}}, 2 MISO, 3 ~{{WP}}, 4 GND, 5 MOSI, 6 SCK, 7 ~{{HOLD}}, 8 VCC

## CAT250xxx-HU4
designator *  value CAT250xxx-HU4  Reference: U
ki_keywords: EEPROM memory SPI serial; ki_description: ON Semiconductor SPI Serial EEPROM, DFN8; ki_fp_filters: DFN*3x2mm*P0.5mm*; Footprint: Package_DFN_QFN:DFN-8-1EP_3x2mm_P0.5mm_EP1.75x1.45mm; Datasheet: http://www.onsemi.com/PowerSolutions/product.do?id=CAT25040
pins: 1 ~{{CS}}, 2 MISO, 3 ~{{WP}}, 4 GND, 5 MOSI, 6 SCK, 7 ~{{HOLD}}, 8 VCC, 9 GND hidden

## M24C01-FDW
designator *  value M24C01-FDW  Reference: U
ki_keywords: Nonvolatile Non-Volatile Memory ROM ST; ki_description: 1Kb (128x8) I2C Serial EEPROM, 1.6-5.5V, TSSOP-8; ki_fp_filters: TSSOP*4.4x3mm*P0.65mm*; Footprint: Package_SO:TSSOP-8_4.4x3mm_P0.65mm; Datasheet: http://www.st.com/content/ccc/resource/technical/document/datasheet/b0/d8/50/40/5a/85/49/6f/DM00071904.pdf/files/DM00071904.pdf/jcr:content/translations/en.DM00071904.pdf
pins: 1 E0, 2 E1, 3 E2, 4 VSS, 5 SDA, 6 SCL, 7 ~{{WC}}, 8 VCC

## M24C01-FMN
designator *  value M24C01-FMN  Reference: U
ki_keywords: Nonvolatile Non-Volatile Memory ROM ST; ki_description: 1Kb (128x8) I2C Serial EEPROM, 1.6-5.5V, SOIC-8; ki_fp_filters: SOIC*3.9x4.9mm*P1.27mm*; Footprint: Package_SO:SOIC-8_3.9x4.9mm_P1.27mm; Datasheet: http://www.st.com/content/ccc/resource/technical/document/datasheet/b0/d8/50/40/5a/85/49/6f/DM00071904.pdf/files/DM00071904.pdf/jcr:content/translations/en.DM00071904.pdf
pins: 1 E0, 2 E1, 3 E2, 4 VSS, 5 SDA, 6 SCL, 7 ~{{WC}}, 8 VCC

## M24C01-RDW
designator *  value M24C01-RDW  Reference: U
ki_keywords: Nonvolatile Non-Volatile Memory ROM ST; ki_description: 1Kb (128x8) I2C Serial EEPROM, 1.8-5.5V, TSSOP-8; ki_fp_filters: TSSOP*4.4x3mm*P0.65mm*; Footprint: Package_SO:TSSOP-8_4.4x3mm_P0.65mm; Datasheet: http://www.st.com/content/ccc/resource/technical/document/datasheet/b0/d8/50/40/5a/85/49/6f/DM00071904.pdf/files/DM00071904.pdf/jcr:content/translations/en.DM00071904.pdf
pins: 1 E0, 2 E1, 3 E2, 4 VSS, 5 SDA, 6 SCL, 7 ~{{WC}}, 8 VCC

## M24C01-RMN
designator *  value M24C01-RMN  Reference: U
ki_keywords: Nonvolatile Non-Volatile Memory ROM ST; ki_description: 1Kb (128x8) I2C Serial EEPROM, 1.8-5.5V, SOIC-8; ki_fp_filters: SOIC*3.9x4.9mm*P1.27mm*; Footprint: Package_SO:SOIC-8_3.9x4.9mm_P1.27mm; Datasheet: http://www.st.com/content/ccc/resource/technical/document/datasheet/b0/d8/50/40/5a/85/49/6f/DM00071904.pdf/files/DM00071904.pdf/jcr:content/translations/en.DM00071904.pdf
pins: 1 E0, 2 E1, 3 E2, 4 VSS, 5 SDA, 6 SCL, 7 ~{{WC}}, 8 VCC

## M24C01-WDW
designator *  value M24C01-WDW  Reference: U
ki_keywords: Nonvolatile Non-Volatile Memory ROM ST; ki_description: 1Kb (128x8) I2C Serial EEPROM, 2.5-5.5V, TSSOP-8; ki_fp_filters: TSSOP*4.4x3mm*P0.65mm*; Footprint: Package_SO:TSSOP-8_4.4x3mm_P0.65mm; Datasheet: http://www.st.com/content/ccc/resource/technical/document/datasheet/b0/d8/50/40/5a/85/49/6f/DM00071904.pdf/files/DM00071904.pdf/jcr:content/translations/en.DM00071904.pdf
pins: 1 E0, 2 E1, 3 E2, 4 VSS, 5 SDA, 6 SCL, 7 ~{{WC}}, 8 VCC

## M24C01-WMN
designator *  value M24C01-WMN  Reference: U
ki_keywords: Nonvolatile Non-Volatile Memory ROM ST; ki_description: 1Kb (128x8) I2C Serial EEPROM, 2.5-5.5V, SOIC-8; ki_fp_filters: SOIC*3.9x4.9mm*P1.27mm*; Footprint: Package_SO:SOIC-8_3.9x4.9mm_P1.27mm; Datasheet: http://www.st.com/content/ccc/resource/technical/document/datasheet/b0/d8/50/40/5a/85/49/6f/DM00071904.pdf/files/DM00071904.pdf/jcr:content/translations/en.DM00071904.pdf
pins: 1 E0, 2 E1, 3 E2, 4 VSS, 5 SDA, 6 SCL, 7 ~{{WC}}, 8 VCC

## M24C02-FDW
designator *  value M24C02-FDW  Reference: U
ki_keywords: Nonvolatile Non-Volatile Memory ROM ST; ki_description: 2Kb (256x8) I2C Serial EEPROM, 1.6-5.5V, TSSOP-8; ki_fp_filters: TSSOP*4.4x3mm*P0.65mm*; Footprint: Package_SO:TSSOP-8_4.4x3mm_P0.65mm; Datasheet: http://www.st.com/content/ccc/resource/technical/document/datasheet/b0/d8/50/40/5a/85/49/6f/DM00071904.pdf/files/DM00071904.pdf/jcr:content/translations/en.DM00071904.pdf
pins: 1 E0, 2 E1, 3 E2, 4 VSS, 5 SDA, 6 SCL, 7 ~{{WC}}, 8 VCC

## M24C02-FMN
designator *  value M24C02-FMN  Reference: U
ki_keywords: Nonvolatile Non-Volatile Memory ROM ST; ki_description: 2Kb (256x8) I2C Serial EEPROM, 1.6-5.5V, SOIC-8; ki_fp_filters: SOIC*3.9x4.9mm*P1.27mm*; Footprint: Package_SO:SOIC-8_3.9x4.9mm_P1.27mm; Datasheet: http://www.st.com/content/ccc/resource/technical/document/datasheet/b0/d8/50/40/5a/85/49/6f/DM00071904.pdf/files/DM00071904.pdf/jcr:content/translations/en.DM00071904.pdf
pins: 1 E0, 2 E1, 3 E2, 4 VSS, 5 SDA, 6 SCL, 7 ~{{WC}}, 8 VCC

## M24C02-RDW
designator *  value M24C02-RDW  Reference: U
ki_keywords: Nonvolatile Non-Volatile Memory ROM ST; ki_description: 2Kb (256x8) I2C Serial EEPROM, 1.8-5.5V, TSSOP-8; ki_fp_filters: TSSOP*4.4x3mm*P0.65mm*; Footprint: Package_SO:TSSOP-8_4.4x3mm_P0.65mm; Datasheet: http://www.st.com/content/ccc/resource/technical/document/datasheet/b0/d8/50/40/5a/85/49/6f/DM00071904.pdf/files/DM00071904.pdf/jcr:content/translations/en.DM00071904.pdf
pins: 1 E0, 2 E1, 3 E2, 4 VSS, 5 SDA, 6 SCL, 7 ~{{WC}}, 8 VCC

## M24C02-RMN
designator *  value M24C02-RMN  Reference: U
ki_keywords: Nonvolatile Non-Volatile Memory ROM ST; ki_description: 2Kb (256x8) I2C Serial EEPROM, 1.8-5.5V, SOIC-8; ki_fp_filters: SOIC*3.9x4.9mm*P1.27mm*; Footprint: Package_SO:SOIC-8_3.9x4.9mm_P1.27mm; Datasheet: http://www.st.com/content/ccc/resource/technical/document/datasheet/b0/d8/50/40/5a/85/49/6f/DM00071904.pdf/files/DM00071904.pdf/jcr:content/translations/en.DM00071904.pdf
pins: 1 E0, 2 E1, 3 E2, 4 VSS, 5 SDA, 6 SCL, 7 ~{{WC}}, 8 VCC

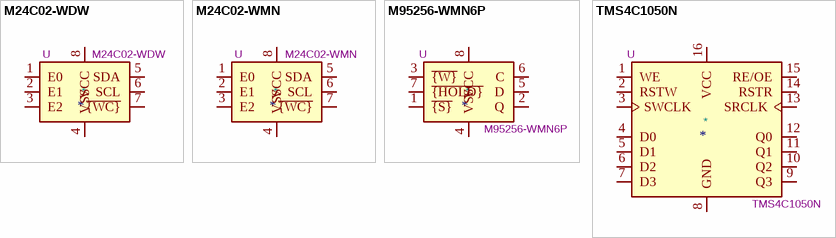
[diagram p2: symbols M24C02-WDW to TMS4C1050N]

## M24C02-WDW
designator *  value M24C02-WDW  Reference: U
ki_keywords: Nonvolatile Non-Volatile Memory ROM ST; ki_description: 2Kb (256x8) I2C Serial EEPROM, 2.5-5.5V, TSSOP-8; ki_fp_filters: TSSOP*4.4x3mm*P0.65mm*; Footprint: Package_SO:TSSOP-8_4.4x3mm_P0.65mm; Datasheet: http://www.st.com/content/ccc/resource/technical/document/datasheet/b0/d8/50/40/5a/85/49/6f/DM00071904.pdf/files/DM00071904.pdf/jcr:content/translations/en.DM00071904.pdf
pins: 1 E0, 2 E1, 3 E2, 4 VSS, 5 SDA, 6 SCL, 7 ~{{WC}}, 8 VCC

## M24C02-WMN
designator *  value M24C02-WMN  Reference: U
ki_keywords: Nonvolatile Non-Volatile Memory ROM ST; ki_description: 2Kb (256x8) I2C Serial EEPROM, 2.5-5.5V, SOIC-8; ki_fp_filters: SOIC*3.9x4.9mm*P1.27mm*; Footprint: Package_SO:SOIC-8_3.9x4.9mm_P1.27mm; Datasheet: http://www.st.com/content/ccc/resource/technical/document/datasheet/b0/d8/50/40/5a/85/49/6f/DM00071904.pdf/files/DM00071904.pdf/jcr:content/translations/en.DM00071904.pdf
pins: 1 E0, 2 E1, 3 E2, 4 VSS, 5 SDA, 6 SCL, 7 ~{{WC}}, 8 VCC

## M95256-WMN6P
designator *  value M95256-WMN6P  Reference: U
ki_keywords: SPI EEPROM; ki_description: SPI EEPROM, 256Kb (32K x 8), No Identification Page, 2.5 to 5.5V, SO8; ki_fp_filters: SOIC*3.9x4.9mm*P1.27mm*; Footprint: Package_SO:SOIC-8_3.9x4.9mm_P1.27mm; Datasheet: http://www.st.com/content/ccc/resource/technical/document/datasheet/9d/75/f0/3e/76/00/4c/0b/CD00103810.pdf/files/CD00103810.pdf/jcr:content/translations/en.CD00103810.pdf
pins: 1 ~{{S}}, 2 Q, 3 ~{{W}}, 4 VSS, 5 D, 6 C, 7 ~{{HOLD}}, 8 VCC

## TMS4C1050N
designator *  value TMS4C1050N  Reference: U
ki_keywords: Field Memory; ki_description: Field Memory, 262264 x 4 bit, [Obsolete 1992-01]; ki_fp_filters: DIP*; Footprint: Package_DIP:DIP-16_W7.62mm; Datasheet: http://www.datasheets360.com/pdf/3640170882560205603
pins: 1 WE, 2 RSTW, 3 SWCLK, 4 D0, 5 D1, 6 D2, 7 D3, 8 GND, 9 Q3, 10 Q2, 11 Q1, 12 Q0, 13 SRCLK, 14 RSTR, 15 RE/OE, 16 VCC